# Altium footprint library 10x2 FFC.PcbLib: 1 footprints
Each footprint in its own frame and in the unit in brackets; x right, y up, seen from the top. Pads: shape width x height; smd on the part's side, far side on the other; paste and mask are expansions set on the pad; w line width, h text height; cw(c..) or ccw(c..) is an arc to the next point about the centre after c.
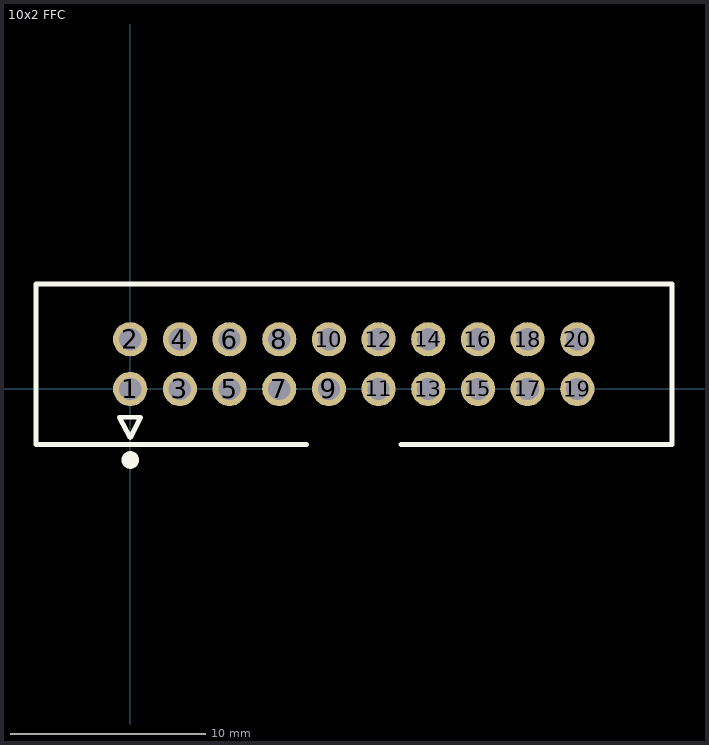
[diagram p0: the footprint, top view; thin cyan lines are the x and y axes]

## 10x2 FFC [mm]
pads (20):
  round 1.75 hole 1.14: 1(0,0) 2(0,2.54) 3(2.54,0) 4(2.54,2.54) 5(5.08,0) 6(5.08,2.54) 7(7.62,0) 8(7.62,2.54) 9(10.16,0) 10(10.16,2.54) 11(12.7,0) 12(12.7,2.54) 13(15.24,0) 14(15.24,2.54) 15(17.78,0) 16(17.78,2.54) 17(20.32,0) 18(20.32,2.54) 19(22.86,0) 20(22.86,2.54)
Top Overlay:
  circle w0.5: c0.003,-3.632 r0.2
  lines w0.25: -4.826,-2.845 9.017,-2.845 ; 13.843,-2.845 27.711,-2.845 ; -0.559,-1.448 0.533,-1.448 0,-2.489 -0.559,-1.448
  lines w0.254: -4.826,-2.845 -4.826,5.359 27.711,5.359 27.711,-2.845
3D body: height 9.27, standoff -4.06, extent -4.826,-2.845 27.686,5.334